# EAGLE library part EL4543IUZ (library Intersil_By_element14_Batch_1)
Triple Differential Twisted-Pair Driver
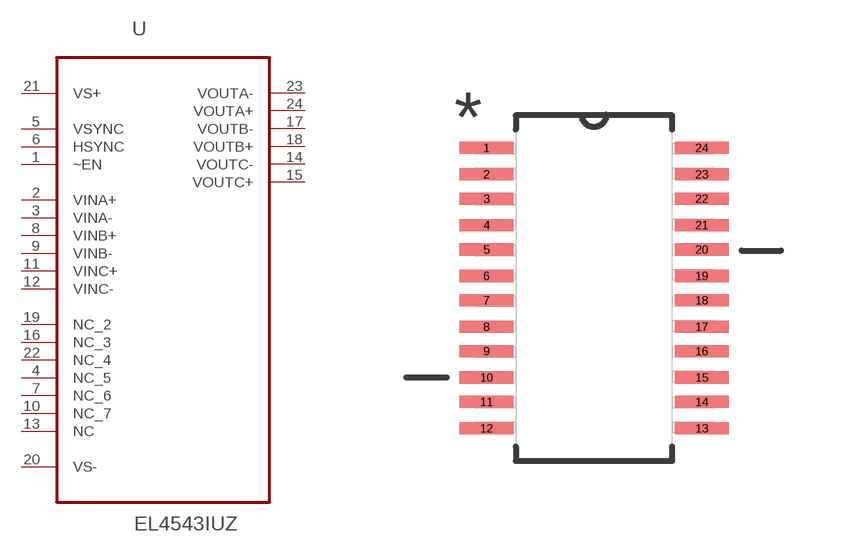
[diagram p55: symbol with the pads of SOP63P600X172-24N; footprint SOP63P600X172-24N]

Designator prefix U

## EL4543IUZ (MPN: EL4543IUZ; OC_FARNELL: 1562032; OC_NEWARK: 61J5595; PACKAGE: QSOP-24; SUPPLIER: INTERSIL)  [SOP63P600X172-24N]
1  ~EN  in
2  VINA+  in
3  VINA-  in
4  NC_5  nc
5  VSYNC  in
6  HSYNC  in
7  NC_6  nc
8  VINB+  in
9  VINB-  in
10  NC_7  nc
11  VINC+  in
12  VINC-  in
13  NC  nc
14  VOUTC-  out
15  VOUTC+  out
16  NC_3  nc
17  VOUTB-  out
18  VOUTB+  out
19  NC_2  nc
20  VS-  pwr
21  VS+  pwr
22  NC_4  nc
23  VOUTA-  out
24  VOUTA+  out

## Footprint SOP63P600X172-24N (pad centres in mm)
smd 1.346 x 0.305: 1 -2.692,3.505; 2 -2.692,2.845; 3 -2.692,2.235; 4 -2.692,1.575; 5 -2.692,0.965; 6 -2.692,0.305; 7 -2.692,-0.305; 8 -2.692,-0.965; 9 -2.692,-1.575; 10 -2.692,-2.235; 11 -2.692,-2.845; 12 -2.692,-3.505; 13 2.692,-3.505; 14 2.692,-2.845; 15 2.692,-2.235; 16 2.692,-1.575; 17 2.692,-0.965; 18 2.692,-0.305; 19 2.692,0.305; 20 2.692,0.965; 21 2.692,1.575; 22 2.692,2.235; 23 2.692,2.845; 24 2.692,3.505